# EAGLE library part IN-17 (library 0-nixies-russian)
IN-17 Nixie Tube
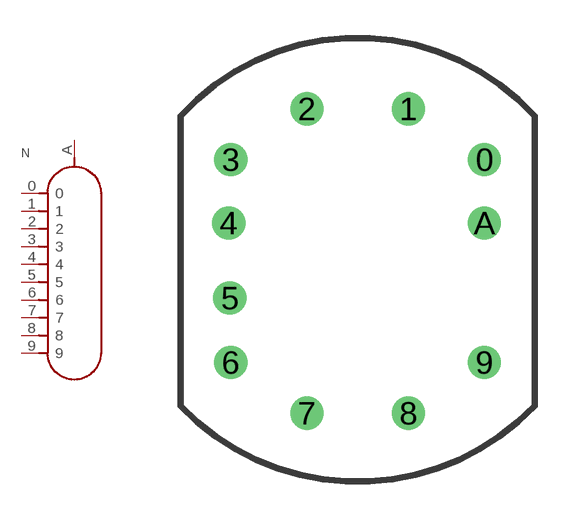
[diagram p0: symbol with the pads of IN-17; footprint IN-17]

Designator prefix N

## IN-17  [IN-17]
0  0
1  1
2  2
3  3
4  4
5  5
6  6
7  7
8  8
9  9
A  A

## Footprint IN-17 (pad centres in mm)
IN-17 Package, view from rear
drill 0.8: 0 5,4; 1 2,6; 2 -2,6; 3 -5,4; 4 -5.08,1.5; 5 -5.04,-1.46; 6 -5,-4; 7 -2,-6; 8 2,-6; 9 5,-4; A 5,1.5